# Altium integrated library Vishay Roederstein Electrolytic Snap-In Pins Capacitor.IntLib: 936 symbols (part 1 of 16)
Pins are listed as number, name and electrical type; pins without a type are passive.

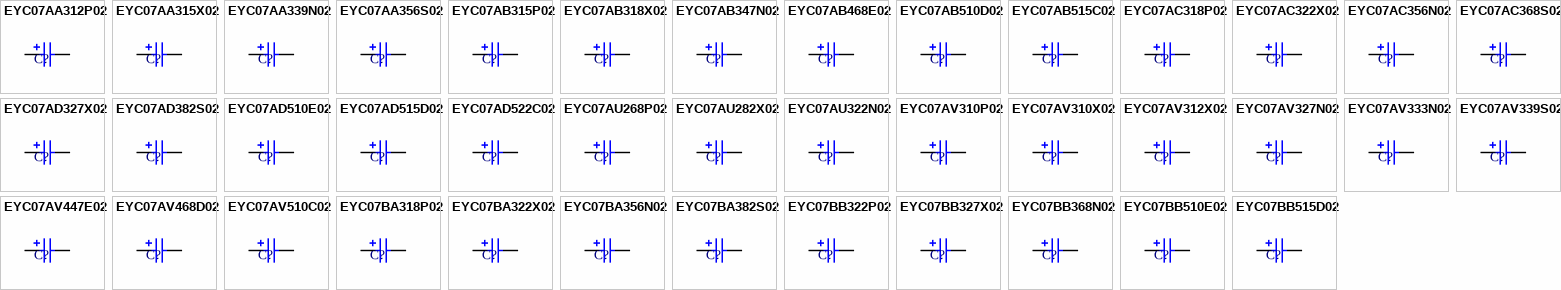
[diagram p0: symbols EYC07AA312P02 to EYC07BB515D02]

## EYC07AA312P02
designator C?
Aluminum Electrolytic Capacitor, Power Capacitor Style EYC, Snap-in 6mm Solder Pins: 120uF, 450V; PCB_Layout: Complies with Manufacturer's Recommendation.; DrillSize: Nominal, Complies with Manufacturer's Recommendation.; Published: 19-Mar-2004; DatasheetDocument: 26-Feb-2002; PackageReference: CAPPRS10-25X35; Publisher: Altium Limited; ComponentLink1Description: Manufacturer Link; ComponentLink1URL: http://www.vishay.com/; ComponentLink2Description: Datasheet; ComponentLink2URL: http://www.vishay.com/docs/25138/eyc.pdf; Value: 120uF
footprint CAPPRS10-25X35 (Capacitor, Electrolytic, Radial, Snap-In Pins; Body 25 x 35 mm (Dia.xH typ); Pin Spacing 10 mm (typ))
simulation model CAP (Capacitor)
signal-integrity model EYC07AA312P02
pins: 1, 2
1 alternate drawing of the same symbol

## EYC07AA315X02
designator C?
Aluminum Electrolytic Capacitor, Power Capacitor Style EYC, Snap-in 6mm Solder Pins: 150uF, 400V; PCB_Layout: Complies with Manufacturer's Recommendation.; DrillSize: Nominal, Complies with Manufacturer's Recommendation.; Published: 19-Mar-2004; DatasheetDocument: 26-Feb-2002; PackageReference: CAPPRS10-25X35; Publisher: Altium Limited; ComponentLink1Description: Manufacturer Link; ComponentLink1URL: http://www.vishay.com/; ComponentLink2Description: Datasheet; ComponentLink2URL: http://www.vishay.com/docs/25138/eyc.pdf; Value: 150uF
footprint CAPPRS10-25X35 (Capacitor, Electrolytic, Radial, Snap-In Pins; Body 25 x 35 mm (Dia.xH typ); Pin Spacing 10 mm (typ))
simulation model CAP (Capacitor)
signal-integrity model EYC07AA315X02
pins: 1, 2
1 alternate drawing of the same symbol

## EYC07AA339N02
designator C?
Aluminum Electrolytic Capacitor, Power Capacitor Style EYC, Snap-in 6mm Solder Pins: 390uF, 250V; PCB_Layout: Complies with Manufacturer's Recommendation.; DrillSize: Nominal, Complies with Manufacturer's Recommendation.; Published: 19-Mar-2004; DatasheetDocument: 26-Feb-2002; PackageReference: CAPPRS10-25X35; Publisher: Altium Limited; ComponentLink1Description: Manufacturer Link; ComponentLink1URL: http://www.vishay.com/; ComponentLink2Description: Datasheet; ComponentLink2URL: http://www.vishay.com/docs/25138/eyc.pdf; Value: 390uF
footprint CAPPRS10-25X35 (Capacitor, Electrolytic, Radial, Snap-In Pins; Body 25 x 35 mm (Dia.xH typ); Pin Spacing 10 mm (typ))
simulation model CAP (Capacitor)
signal-integrity model EYC07AA339N02
pins: 1, 2
1 alternate drawing of the same symbol

## EYC07AA356S02
designator C?
Aluminum Electrolytic Capacitor, Power Capacitor Style EYC, Snap-in 6mm Solder Pins: 560uF, 200V; PCB_Layout: Complies with Manufacturer's Recommendation.; DrillSize: Nominal, Complies with Manufacturer's Recommendation.; Published: 19-Mar-2004; DatasheetDocument: 26-Feb-2002; PackageReference: CAPPRS10-25X35; Publisher: Altium Limited; ComponentLink1Description: Manufacturer Link; ComponentLink1URL: http://www.vishay.com/; ComponentLink2Description: Datasheet; ComponentLink2URL: http://www.vishay.com/docs/25138/eyc.pdf; Value: 560uF
footprint CAPPRS10-25X35 (Capacitor, Electrolytic, Radial, Snap-In Pins; Body 25 x 35 mm (Dia.xH typ); Pin Spacing 10 mm (typ))
simulation model CAP (Capacitor)
signal-integrity model EYC07AA356S02
pins: 1, 2
1 alternate drawing of the same symbol

## EYC07AB315P02
designator C?
Aluminum Electrolytic Capacitor, Power Capacitor Style EYC, Snap-in 6mm Solder Pins: 150uF, 450V; PCB_Layout: Complies with Manufacturer's Recommendation.; DrillSize: Nominal, Complies with Manufacturer's Recommendation.; Published: 19-Mar-2004; DatasheetDocument: 26-Feb-2002; PackageReference: CAPPRS10-25X40; Publisher: Altium Limited; ComponentLink1Description: Manufacturer Link; ComponentLink1URL: http://www.vishay.com/; ComponentLink2Description: Datasheet; ComponentLink2URL: http://www.vishay.com/docs/25138/eyc.pdf; Value: 150uF
footprint CAPPRS10-25X40 (Capacitor, Electrolytic, Radial, Snap-In Pins; Body 25 x 40 mm (Dia.xH typ); Pin Spacing 10 mm (typ))
simulation model CAP (Capacitor)
signal-integrity model EYC07AB315P02
pins: 1, 2
1 alternate drawing of the same symbol

## EYC07AB318X02
designator C?
Aluminum Electrolytic Capacitor, Power Capacitor Style EYC, Snap-in 6mm Solder Pins: 180uF, 400V; PCB_Layout: Complies with Manufacturer's Recommendation.; DrillSize: Nominal, Complies with Manufacturer's Recommendation.; Published: 19-Mar-2004; DatasheetDocument: 26-Feb-2002; PackageReference: CAPPRS10-25X40; Publisher: Altium Limited; ComponentLink1Description: Manufacturer Link; ComponentLink1URL: http://www.vishay.com/; ComponentLink2Description: Datasheet; ComponentLink2URL: http://www.vishay.com/docs/25138/eyc.pdf; Value: 180uF
footprint CAPPRS10-25X40 (Capacitor, Electrolytic, Radial, Snap-In Pins; Body 25 x 40 mm (Dia.xH typ); Pin Spacing 10 mm (typ))
simulation model CAP (Capacitor)
signal-integrity model EYC07AB318X02
pins: 1, 2
1 alternate drawing of the same symbol

## EYC07AB347N02
designator C?
Aluminum Electrolytic Capacitor, Power Capacitor Style EYC, Snap-in 6mm Solder Pins: 470uF, 250V; PCB_Layout: Complies with Manufacturer's Recommendation.; DrillSize: Nominal, Complies with Manufacturer's Recommendation.; Published: 19-Mar-2004; DatasheetDocument: 26-Feb-2002; PackageReference: CAPPRS10-25X40; Publisher: Altium Limited; ComponentLink1Description: Manufacturer Link; ComponentLink1URL: http://www.vishay.com/; ComponentLink2Description: Datasheet; ComponentLink2URL: http://www.vishay.com/docs/25138/eyc.pdf; Value: 470uF
footprint CAPPRS10-25X40 (Capacitor, Electrolytic, Radial, Snap-In Pins; Body 25 x 40 mm (Dia.xH typ); Pin Spacing 10 mm (typ))
simulation model CAP (Capacitor)
signal-integrity model EYC07AB347N02
pins: 1, 2
1 alternate drawing of the same symbol

## EYC07AB468E02
designator C?
Aluminum Electrolytic Capacitor, Power Capacitor Style EYC, Snap-in 6mm Solder Pins: 6800uF, 25V; PCB_Layout: Complies with Manufacturer's Recommendation.; DrillSize: Nominal, Complies with Manufacturer's Recommendation.; Published: 19-Mar-2004; DatasheetDocument: 26-Feb-2002; PackageReference: CAPPRS10-25X40; Publisher: Altium Limited; ComponentLink1Description: Manufacturer Link; ComponentLink1URL: http://www.vishay.com/; ComponentLink2Description: Datasheet; ComponentLink2URL: http://www.vishay.com/docs/25138/eyc.pdf; Value: 6800uF
footprint CAPPRS10-25X40 (Capacitor, Electrolytic, Radial, Snap-In Pins; Body 25 x 40 mm (Dia.xH typ); Pin Spacing 10 mm (typ))
simulation model CAP (Capacitor)
signal-integrity model EYC07AB468E02
pins: 1, 2
1 alternate drawing of the same symbol

## EYC07AB510D02
designator C?
Aluminum Electrolytic Capacitor, Power Capacitor Style EYC, Snap-in 6mm Solder Pins: 10000uF, 16V; PCB_Layout: Complies with Manufacturer's Recommendation.; DrillSize: Nominal, Complies with Manufacturer's Recommendation.; Published: 19-Mar-2004; DatasheetDocument: 26-Feb-2002; PackageReference: CAPPRS10-25X40; Publisher: Altium Limited; ComponentLink1Description: Manufacturer Link; ComponentLink1URL: http://www.vishay.com/; ComponentLink2Description: Datasheet; ComponentLink2URL: http://www.vishay.com/docs/25138/eyc.pdf; Value: 10000uF
footprint CAPPRS10-25X40 (Capacitor, Electrolytic, Radial, Snap-In Pins; Body 25 x 40 mm (Dia.xH typ); Pin Spacing 10 mm (typ))
simulation model CAP (Capacitor)
signal-integrity model EYC07AB510D02
pins: 1, 2
1 alternate drawing of the same symbol

## EYC07AB515C02
designator C?
Aluminum Electrolytic Capacitor, Power Capacitor Style EYC, Snap-in 6mm Solder Pins: 15000uF, 10V; PCB_Layout: Complies with Manufacturer's Recommendation.; DrillSize: Nominal, Complies with Manufacturer's Recommendation.; Published: 19-Mar-2004; DatasheetDocument: 26-Feb-2002; PackageReference: CAPPRS10-25X40; Publisher: Altium Limited; ComponentLink1Description: Manufacturer Link; ComponentLink1URL: http://www.vishay.com/; ComponentLink2Description: Datasheet; ComponentLink2URL: http://www.vishay.com/docs/25138/eyc.pdf; Value: 15000uF
footprint CAPPRS10-25X40 (Capacitor, Electrolytic, Radial, Snap-In Pins; Body 25 x 40 mm (Dia.xH typ); Pin Spacing 10 mm (typ))
simulation model CAP (Capacitor)
signal-integrity model EYC07AB515C02
pins: 1, 2
1 alternate drawing of the same symbol

## EYC07AC318P02
designator C?
Aluminum Electrolytic Capacitor, Power Capacitor Style EYC, Snap-in 6mm Solder Pins: 180uF, 450V; PCB_Layout: Complies with Manufacturer's Recommendation.; DrillSize: Nominal, Complies with Manufacturer's Recommendation.; Published: 19-Mar-2004; DatasheetDocument: 26-Feb-2002; PackageReference: CAPPRS10-25X45; Publisher: Altium Limited; ComponentLink1Description: Manufacturer Link; ComponentLink1URL: http://www.vishay.com/; ComponentLink2Description: Datasheet; ComponentLink2URL: http://www.vishay.com/docs/25138/eyc.pdf; Value: 180uF
footprint CAPPRS10-25X45 (Capacitor, Electrolytic, Radial, Snap-In Pins; Body 25 x 45 mm (Dia.xH typ); Pin Spacing 10 mm (typ))
simulation model CAP (Capacitor)
signal-integrity model EYC07AC318P02
pins: 1, 2
1 alternate drawing of the same symbol

## EYC07AC322X02
designator C?
Aluminum Electrolytic Capacitor, Power Capacitor Style EYC, Snap-in 6mm Solder Pins: 220uF, 400V; PCB_Layout: Complies with Manufacturer's Recommendation.; DrillSize: Nominal, Complies with Manufacturer's Recommendation.; Published: 19-Mar-2004; DatasheetDocument: 26-Feb-2002; PackageReference: CAPPRS10-25X45; Publisher: Altium Limited; ComponentLink1Description: Manufacturer Link; ComponentLink1URL: http://www.vishay.com/; ComponentLink2Description: Datasheet; ComponentLink2URL: http://www.vishay.com/docs/25138/eyc.pdf; Value: 220uF
footprint CAPPRS10-25X45 (Capacitor, Electrolytic, Radial, Snap-In Pins; Body 25 x 45 mm (Dia.xH typ); Pin Spacing 10 mm (typ))
simulation model CAP (Capacitor)
signal-integrity model EYC07AC322X02
pins: 1, 2
1 alternate drawing of the same symbol

## EYC07AC356N02
designator C?
Aluminum Electrolytic Capacitor, Power Capacitor Style EYC, Snap-in 6mm Solder Pins: 560uF, 250V; PCB_Layout: Complies with Manufacturer's Recommendation.; DrillSize: Nominal, Complies with Manufacturer's Recommendation.; Published: 19-Mar-2004; DatasheetDocument: 26-Feb-2002; PackageReference: CAPPRS10-25X45; Publisher: Altium Limited; ComponentLink1Description: Manufacturer Link; ComponentLink1URL: http://www.vishay.com/; ComponentLink2Description: Datasheet; ComponentLink2URL: http://www.vishay.com/docs/25138/eyc.pdf; Value: 560uF
footprint CAPPRS10-25X45 (Capacitor, Electrolytic, Radial, Snap-In Pins; Body 25 x 45 mm (Dia.xH typ); Pin Spacing 10 mm (typ))
simulation model CAP (Capacitor)
signal-integrity model EYC07AC356N02
pins: 1, 2
1 alternate drawing of the same symbol

## EYC07AC368S02
designator C?
Aluminum Electrolytic Capacitor, Power Capacitor Style EYC, Snap-in 6mm Solder Pins: 680uF, 200V; PCB_Layout: Complies with Manufacturer's Recommendation.; DrillSize: Nominal, Complies with Manufacturer's Recommendation.; Published: 19-Mar-2004; DatasheetDocument: 26-Feb-2002; PackageReference: CAPPRS10-25X45; Publisher: Altium Limited; ComponentLink1Description: Manufacturer Link; ComponentLink1URL: http://www.vishay.com/; ComponentLink2Description: Datasheet; ComponentLink2URL: http://www.vishay.com/docs/25138/eyc.pdf; Value: 680uF
footprint CAPPRS10-25X45 (Capacitor, Electrolytic, Radial, Snap-In Pins; Body 25 x 45 mm (Dia.xH typ); Pin Spacing 10 mm (typ))
simulation model CAP (Capacitor)
signal-integrity model EYC07AC368S02
pins: 1, 2
1 alternate drawing of the same symbol

## EYC07AD327X02
designator C?
Aluminum Electrolytic Capacitor, Power Capacitor Style EYC, Snap-in 6mm Solder Pins: 270uF, 400V; PCB_Layout: Complies with Manufacturer's Recommendation.; DrillSize: Nominal, Complies with Manufacturer's Recommendation.; Published: 19-Mar-2004; DatasheetDocument: 26-Feb-2002; PackageReference: CAPPRS10-25X50; Publisher: Altium Limited; ComponentLink1Description: Manufacturer Link; ComponentLink1URL: http://www.vishay.com/; ComponentLink2Description: Datasheet; ComponentLink2URL: http://www.vishay.com/docs/25138/eyc.pdf; Value: 270uF
footprint CAPPRS10-25X50 (Capacitor, Electrolytic, Radial, Snap-In Pins; Body 25 x 50 mm (Dia.xH typ); Pin Spacing 10 mm (typ))
simulation model CAP (Capacitor)
signal-integrity model EYC07AD327X02
pins: 1, 2
1 alternate drawing of the same symbol

## EYC07AD382S02
designator C?
Aluminum Electrolytic Capacitor, Power Capacitor Style EYC, Snap-in 6mm Solder Pins: 820uF, 200V; PCB_Layout: Complies with Manufacturer's Recommendation.; DrillSize: Nominal, Complies with Manufacturer's Recommendation.; Published: 19-Mar-2004; DatasheetDocument: 26-Feb-2002; PackageReference: CAPPRS10-25X50; Publisher: Altium Limited; ComponentLink1Description: Manufacturer Link; ComponentLink1URL: http://www.vishay.com/; ComponentLink2Description: Datasheet; ComponentLink2URL: http://www.vishay.com/docs/25138/eyc.pdf; Value: 820uF
footprint CAPPRS10-25X50 (Capacitor, Electrolytic, Radial, Snap-In Pins; Body 25 x 50 mm (Dia.xH typ); Pin Spacing 10 mm (typ))
simulation model CAP (Capacitor)
signal-integrity model EYC07AD382S02
pins: 1, 2
1 alternate drawing of the same symbol

## EYC07AD510E02
designator C?
Aluminum Electrolytic Capacitor, Power Capacitor Style EYC, Snap-in 6mm Solder Pins: 10000uF, 25V; PCB_Layout: Complies with Manufacturer's Recommendation.; DrillSize: Nominal, Complies with Manufacturer's Recommendation.; Published: 19-Mar-2004; DatasheetDocument: 26-Feb-2002; PackageReference: CAPPRS10-25X50; Publisher: Altium Limited; ComponentLink1Description: Manufacturer Link; ComponentLink1URL: http://www.vishay.com/; ComponentLink2Description: Datasheet; ComponentLink2URL: http://www.vishay.com/docs/25138/eyc.pdf; Value: 10000uF
footprint CAPPRS10-25X50 (Capacitor, Electrolytic, Radial, Snap-In Pins; Body 25 x 50 mm (Dia.xH typ); Pin Spacing 10 mm (typ))
simulation model CAP (Capacitor)
signal-integrity model EYC07AD510E02
pins: 1, 2
1 alternate drawing of the same symbol

## EYC07AD515D02
designator C?
Aluminum Electrolytic Capacitor, Power Capacitor Style EYC, Snap-in 6mm Solder Pins: 15000uF, 16V; PCB_Layout: Complies with Manufacturer's Recommendation.; DrillSize: Nominal, Complies with Manufacturer's Recommendation.; Published: 19-Mar-2004; DatasheetDocument: 26-Feb-2002; PackageReference: CAPPRS10-25X50; Publisher: Altium Limited; ComponentLink1Description: Manufacturer Link; ComponentLink1URL: http://www.vishay.com/; ComponentLink2Description: Datasheet; ComponentLink2URL: http://www.vishay.com/docs/25138/eyc.pdf; Value: 15000uF
footprint CAPPRS10-25X50 (Capacitor, Electrolytic, Radial, Snap-In Pins; Body 25 x 50 mm (Dia.xH typ); Pin Spacing 10 mm (typ))
simulation model CAP (Capacitor)
signal-integrity model EYC07AD515D02
pins: 1, 2
1 alternate drawing of the same symbol

## EYC07AD522C02
designator C?
Aluminum Electrolytic Capacitor, Power Capacitor Style EYC, Snap-in 6mm Solder Pins: 22000uF, 10V; PCB_Layout: Complies with Manufacturer's Recommendation.; DrillSize: Nominal, Complies with Manufacturer's Recommendation.; Published: 19-Mar-2004; DatasheetDocument: 26-Feb-2002; PackageReference: CAPPRS10-25X50; Publisher: Altium Limited; ComponentLink1Description: Manufacturer Link; ComponentLink1URL: http://www.vishay.com/; ComponentLink2Description: Datasheet; ComponentLink2URL: http://www.vishay.com/docs/25138/eyc.pdf; Value: 22000uF
footprint CAPPRS10-25X50 (Capacitor, Electrolytic, Radial, Snap-In Pins; Body 25 x 50 mm (Dia.xH typ); Pin Spacing 10 mm (typ))
simulation model CAP (Capacitor)
signal-integrity model EYC07AD522C02
pins: 1, 2
1 alternate drawing of the same symbol

## EYC07AU268P02
designator C?
Aluminum Electrolytic Capacitor, Power Capacitor Style EYC, Snap-in 6mm Solder Pins: 68uF, 450V; PCB_Layout: Complies with Manufacturer's Recommendation.; DrillSize: Nominal, Complies with Manufacturer's Recommendation.; Published: 19-Mar-2004; DatasheetDocument: 26-Feb-2002; PackageReference: CAPPRS10-25X25; Publisher: Altium Limited; ComponentLink1Description: Manufacturer Link; ComponentLink1URL: http://www.vishay.com/; ComponentLink2Description: Datasheet; ComponentLink2URL: http://www.vishay.com/docs/25138/eyc.pdf; Value: 68uF
footprint CAPPRS10-25X25 (Capacitor, Electrolytic, Radial, Snap-In Pins; Body 25 x 25 mm (Dia.xH typ); Pin Spacing 10 mm (typ))
simulation model CAP (Capacitor)
signal-integrity model EYC07AU268P02
pins: 1, 2
1 alternate drawing of the same symbol

## EYC07AU282X02
designator C?
Aluminum Electrolytic Capacitor, Power Capacitor Style EYC, Snap-in 6mm Solder Pins: 82uF, 400V; PCB_Layout: Complies with Manufacturer's Recommendation.; DrillSize: Nominal, Complies with Manufacturer's Recommendation.; Published: 19-Mar-2004; DatasheetDocument: 26-Feb-2002; PackageReference: CAPPRS10-25X25; Publisher: Altium Limited; ComponentLink1Description: Manufacturer Link; ComponentLink1URL: http://www.vishay.com/; ComponentLink2Description: Datasheet; ComponentLink2URL: http://www.vishay.com/docs/25138/eyc.pdf; Value: 82uF
footprint CAPPRS10-25X25 (Capacitor, Electrolytic, Radial, Snap-In Pins; Body 25 x 25 mm (Dia.xH typ); Pin Spacing 10 mm (typ))
simulation model CAP (Capacitor)
signal-integrity model EYC07AU282X02
pins: 1, 2
1 alternate drawing of the same symbol

## EYC07AU322N02
designator C?
Aluminum Electrolytic Capacitor, Power Capacitor Style EYC, Snap-in 6mm Solder Pins: 220uF, 250V; PCB_Layout: Complies with Manufacturer's Recommendation.; DrillSize: Nominal, Complies with Manufacturer's Recommendation.; Published: 19-Mar-2004; DatasheetDocument: 26-Feb-2002; PackageReference: CAPPRS10-25X25; Publisher: Altium Limited; ComponentLink1Description: Manufacturer Link; ComponentLink1URL: http://www.vishay.com/; ComponentLink2Description: Datasheet; ComponentLink2URL: http://www.vishay.com/docs/25138/eyc.pdf; Value: 220uF
footprint CAPPRS10-25X25 (Capacitor, Electrolytic, Radial, Snap-In Pins; Body 25 x 25 mm (Dia.xH typ); Pin Spacing 10 mm (typ))
simulation model CAP (Capacitor)
signal-integrity model EYC07AU322N02
pins: 1, 2
1 alternate drawing of the same symbol

## EYC07AV310P02
designator C?
Aluminum Electrolytic Capacitor, Power Capacitor Style EYC, Snap-in 6mm Solder Pins: 100uF, 450V; PCB_Layout: Complies with Manufacturer's Recommendation.; DrillSize: Nominal, Complies with Manufacturer's Recommendation.; Published: 19-Mar-2004; DatasheetDocument: 26-Feb-2002; PackageReference: CAPPRS10-25X30; Publisher: Altium Limited; ComponentLink1Description: Manufacturer Link; ComponentLink1URL: http://www.vishay.com/; ComponentLink2Description: Datasheet; ComponentLink2URL: http://www.vishay.com/docs/25138/eyc.pdf; Value: 100uF
footprint CAPPRS10-25X30 (Capacitor, Electrolytic, Radial, Snap-In Pins; Body 25 x 30 mm (Dia.xH typ); Pin Spacing 10 mm (typ))
simulation model CAP (Capacitor)
signal-integrity model EYC07AV310P02
pins: 1, 2
1 alternate drawing of the same symbol

## EYC07AV310X02
designator C?
Aluminum Electrolytic Capacitor, Power Capacitor Style EYC, Snap-in 6mm Solder Pins: 100uF, 400V; PCB_Layout: Complies with Manufacturer's Recommendation.; DrillSize: Nominal, Complies with Manufacturer's Recommendation.; Published: 19-Mar-2004; DatasheetDocument: 26-Feb-2002; PackageReference: CAPPRS10-25X30; Publisher: Altium Limited; ComponentLink1Description: Manufacturer Link; ComponentLink1URL: http://www.vishay.com/; ComponentLink2Description: Datasheet; ComponentLink2URL: http://www.vishay.com/docs/25138/eyc.pdf; Value: 100uF
footprint CAPPRS10-25X30 (Capacitor, Electrolytic, Radial, Snap-In Pins; Body 25 x 30 mm (Dia.xH typ); Pin Spacing 10 mm (typ))
simulation model CAP (Capacitor)
signal-integrity model EYC07AV310X02
pins: 1, 2
1 alternate drawing of the same symbol

## EYC07AV312X02
designator C?
Aluminum Electrolytic Capacitor, Power Capacitor Style EYC, Snap-in 6mm Solder Pins: 120uF, 400V; PCB_Layout: Complies with Manufacturer's Recommendation.; DrillSize: Nominal, Complies with Manufacturer's Recommendation.; Published: 19-Mar-2004; DatasheetDocument: 26-Feb-2002; PackageReference: CAPPRS10-25X30; Publisher: Altium Limited; ComponentLink1Description: Manufacturer Link; ComponentLink1URL: http://www.vishay.com/; ComponentLink2Description: Datasheet; ComponentLink2URL: http://www.vishay.com/docs/25138/eyc.pdf; Value: 120uF
footprint CAPPRS10-25X30 (Capacitor, Electrolytic, Radial, Snap-In Pins; Body 25 x 30 mm (Dia.xH typ); Pin Spacing 10 mm (typ))
simulation model CAP (Capacitor)
signal-integrity model EYC07AV312X02
pins: 1, 2
1 alternate drawing of the same symbol

## EYC07AV327N02
designator C?
Aluminum Electrolytic Capacitor, Power Capacitor Style EYC, Snap-in 6mm Solder Pins: 270uF, 250V; PCB_Layout: Complies with Manufacturer's Recommendation.; DrillSize: Nominal, Complies with Manufacturer's Recommendation.; Published: 19-Mar-2004; DatasheetDocument: 26-Feb-2002; PackageReference: CAPPRS10-25X30; Publisher: Altium Limited; ComponentLink1Description: Manufacturer Link; ComponentLink1URL: http://www.vishay.com/; ComponentLink2Description: Datasheet; ComponentLink2URL: http://www.vishay.com/docs/25138/eyc.pdf; Value: 270uF
footprint CAPPRS10-25X30 (Capacitor, Electrolytic, Radial, Snap-In Pins; Body 25 x 30 mm (Dia.xH typ); Pin Spacing 10 mm (typ))
simulation model CAP (Capacitor)
signal-integrity model EYC07AV327N02
pins: 1, 2
1 alternate drawing of the same symbol

## EYC07AV333N02
designator C?
Aluminum Electrolytic Capacitor, Power Capacitor Style EYC, Snap-in 6mm Solder Pins: 330uF, 250V; PCB_Layout: Complies with Manufacturer's Recommendation.; DrillSize: Nominal, Complies with Manufacturer's Recommendation.; Published: 19-Mar-2004; DatasheetDocument: 26-Feb-2002; PackageReference: CAPPRS10-25X30; Publisher: Altium Limited; ComponentLink1Description: Manufacturer Link; ComponentLink1URL: http://www.vishay.com/; ComponentLink2Description: Datasheet; ComponentLink2URL: http://www.vishay.com/docs/25138/eyc.pdf; Value: 330uF
footprint CAPPRS10-25X30 (Capacitor, Electrolytic, Radial, Snap-In Pins; Body 25 x 30 mm (Dia.xH typ); Pin Spacing 10 mm (typ))
simulation model CAP (Capacitor)
signal-integrity model EYC07AV333N02
pins: 1, 2
1 alternate drawing of the same symbol

## EYC07AV339S02
designator C?
Aluminum Electrolytic Capacitor, Power Capacitor Style EYC, Snap-in 6mm Solder Pins: 390uF, 200V; PCB_Layout: Complies with Manufacturer's Recommendation.; DrillSize: Nominal, Complies with Manufacturer's Recommendation.; Published: 19-Mar-2004; DatasheetDocument: 26-Feb-2002; PackageReference: CAPPRS10-25X30; Publisher: Altium Limited; ComponentLink1Description: Manufacturer Link; ComponentLink1URL: http://www.vishay.com/; ComponentLink2Description: Datasheet; ComponentLink2URL: http://www.vishay.com/docs/25138/eyc.pdf; Value: 390uF
footprint CAPPRS10-25X30 (Capacitor, Electrolytic, Radial, Snap-In Pins; Body 25 x 30 mm (Dia.xH typ); Pin Spacing 10 mm (typ))
simulation model CAP (Capacitor)
signal-integrity model EYC07AV339S02
pins: 1, 2
1 alternate drawing of the same symbol

## EYC07AV447E02
designator C?
Aluminum Electrolytic Capacitor, Power Capacitor Style EYC, Snap-in 6mm Solder Pins: 4700uF, 25V; PCB_Layout: Complies with Manufacturer's Recommendation.; DrillSize: Nominal, Complies with Manufacturer's Recommendation.; Published: 19-Mar-2004; DatasheetDocument: 26-Feb-2002; PackageReference: CAPPRS10-25X30; Publisher: Altium Limited; ComponentLink1Description: Manufacturer Link; ComponentLink1URL: http://www.vishay.com/; ComponentLink2Description: Datasheet; ComponentLink2URL: http://www.vishay.com/docs/25138/eyc.pdf; Value: 4700uF
footprint CAPPRS10-25X30 (Capacitor, Electrolytic, Radial, Snap-In Pins; Body 25 x 30 mm (Dia.xH typ); Pin Spacing 10 mm (typ))
simulation model CAP (Capacitor)
signal-integrity model EYC07AV447E02
pins: 1, 2
1 alternate drawing of the same symbol

## EYC07AV468D02
designator C?
Aluminum Electrolytic Capacitor, Power Capacitor Style EYC, Snap-in 6mm Solder Pins: 6800uF, 16V; PCB_Layout: Complies with Manufacturer's Recommendation.; DrillSize: Nominal, Complies with Manufacturer's Recommendation.; Published: 19-Mar-2004; DatasheetDocument: 26-Feb-2002; PackageReference: CAPPRS10-25X30; Publisher: Altium Limited; ComponentLink1Description: Manufacturer Link; ComponentLink1URL: http://www.vishay.com/; ComponentLink2Description: Datasheet; ComponentLink2URL: http://www.vishay.com/docs/25138/eyc.pdf; Value: 6800uF
footprint CAPPRS10-25X30 (Capacitor, Electrolytic, Radial, Snap-In Pins; Body 25 x 30 mm (Dia.xH typ); Pin Spacing 10 mm (typ))
simulation model CAP (Capacitor)
signal-integrity model EYC07AV468D02
pins: 1, 2
1 alternate drawing of the same symbol

## EYC07AV510C02
designator C?
Aluminum Electrolytic Capacitor, Power Capacitor Style EYC, Snap-in 6mm Solder Pins: 10000uF, 10V; PCB_Layout: Complies with Manufacturer's Recommendation.; DrillSize: Nominal, Complies with Manufacturer's Recommendation.; Published: 19-Mar-2004; DatasheetDocument: 26-Feb-2002; PackageReference: CAPPRS10-25X30; Publisher: Altium Limited; ComponentLink1Description: Manufacturer Link; ComponentLink1URL: http://www.vishay.com/; ComponentLink2Description: Datasheet; ComponentLink2URL: http://www.vishay.com/docs/25138/eyc.pdf; Value: 10000uF
footprint CAPPRS10-25X30 (Capacitor, Electrolytic, Radial, Snap-In Pins; Body 25 x 30 mm (Dia.xH typ); Pin Spacing 10 mm (typ))
simulation model CAP (Capacitor)
signal-integrity model EYC07AV510C02
pins: 1, 2
1 alternate drawing of the same symbol

## EYC07BA318P02
designator C?
Aluminum Electrolytic Capacitor, Power Capacitor Style EYC, Snap-in 6mm Solder Pins: 180uF, 450V; PCB_Layout: Complies with Manufacturer's Recommendation.; DrillSize: Nominal, Complies with Manufacturer's Recommendation.; Published: 19-Mar-2004; DatasheetDocument: 26-Feb-2002; PackageReference: CAPPRS10-30X35; Publisher: Altium Limited; ComponentLink1Description: Manufacturer Link; ComponentLink1URL: http://www.vishay.com/; ComponentLink2Description: Datasheet; ComponentLink2URL: http://www.vishay.com/docs/25138/eyc.pdf; Value: 180uF
footprint CAPPRS10-30X35 (Capacitor, Electrolytic, Radial, Snap-In Pins; Body 30 x 35 mm (Dia.xH typ); Pin Spacing 10 mm (typ))
simulation model CAP (Capacitor)
signal-integrity model EYC07BA318P02
pins: 1, 2
1 alternate drawing of the same symbol

## EYC07BA322X02
designator C?
Aluminum Electrolytic Capacitor, Power Capacitor Style EYC, Snap-in 6mm Solder Pins: 220uF, 400V; PCB_Layout: Complies with Manufacturer's Recommendation.; DrillSize: Nominal, Complies with Manufacturer's Recommendation.; Published: 19-Mar-2004; DatasheetDocument: 26-Feb-2002; PackageReference: CAPPRS10-30X35; Publisher: Altium Limited; ComponentLink1Description: Manufacturer Link; ComponentLink1URL: http://www.vishay.com/; ComponentLink2Description: Datasheet; ComponentLink2URL: http://www.vishay.com/docs/25138/eyc.pdf; Value: 220uF
footprint CAPPRS10-30X35 (Capacitor, Electrolytic, Radial, Snap-In Pins; Body 30 x 35 mm (Dia.xH typ); Pin Spacing 10 mm (typ))
simulation model CAP (Capacitor)
signal-integrity model EYC07BA322X02
pins: 1, 2
1 alternate drawing of the same symbol

## EYC07BA356N02
designator C?
Aluminum Electrolytic Capacitor, Power Capacitor Style EYC, Snap-in 6mm Solder Pins: 560uF, 250V; PCB_Layout: Complies with Manufacturer's Recommendation.; DrillSize: Nominal, Complies with Manufacturer's Recommendation.; Published: 19-Mar-2004; DatasheetDocument: 26-Feb-2002; PackageReference: CAPPRS10-30X35; Publisher: Altium Limited; ComponentLink1Description: Manufacturer Link; ComponentLink1URL: http://www.vishay.com/; ComponentLink2Description: Datasheet; ComponentLink2URL: http://www.vishay.com/docs/25138/eyc.pdf; Value: 560uF
footprint CAPPRS10-30X35 (Capacitor, Electrolytic, Radial, Snap-In Pins; Body 30 x 35 mm (Dia.xH typ); Pin Spacing 10 mm (typ))
simulation model CAP (Capacitor)
signal-integrity model EYC07BA356N02
pins: 1, 2
1 alternate drawing of the same symbol

## EYC07BA382S02
designator C?
Aluminum Electrolytic Capacitor, Power Capacitor Style EYC, Snap-in 6mm Solder Pins: 820uF, 200V; PCB_Layout: Complies with Manufacturer's Recommendation.; DrillSize: Nominal, Complies with Manufacturer's Recommendation.; Published: 19-Mar-2004; DatasheetDocument: 26-Feb-2002; PackageReference: CAPPRS10-30X35; Publisher: Altium Limited; ComponentLink1Description: Manufacturer Link; ComponentLink1URL: http://www.vishay.com/; ComponentLink2Description: Datasheet; ComponentLink2URL: http://www.vishay.com/docs/25138/eyc.pdf; Value: 820uF
footprint CAPPRS10-30X35 (Capacitor, Electrolytic, Radial, Snap-In Pins; Body 30 x 35 mm (Dia.xH typ); Pin Spacing 10 mm (typ))
simulation model CAP (Capacitor)
signal-integrity model EYC07BA382S02
pins: 1, 2
1 alternate drawing of the same symbol

## EYC07BB322P02
designator C?
Aluminum Electrolytic Capacitor, Power Capacitor Style EYC, Snap-in 6mm Solder Pins: 220uF, 450V; PCB_Layout: Complies with Manufacturer's Recommendation.; DrillSize: Nominal, Complies with Manufacturer's Recommendation.; Published: 19-Mar-2004; DatasheetDocument: 26-Feb-2002; PackageReference: CAPPRS10-30X40; Publisher: Altium Limited; ComponentLink1Description: Manufacturer Link; ComponentLink1URL: http://www.vishay.com/; ComponentLink2Description: Datasheet; ComponentLink2URL: http://www.vishay.com/docs/25138/eyc.pdf; Value: 220uF
footprint CAPPRS10-30X40 (Capacitor, Electrolytic, Radial, Snap-In Pins; Body 30 x 40 mm (Dia.xH typ); Pin Spacing 10 mm (typ))
simulation model CAP (Capacitor)
signal-integrity model EYC07BB322P02
pins: 1, 2
1 alternate drawing of the same symbol

## EYC07BB327X02
designator C?
Aluminum Electrolytic Capacitor, Power Capacitor Style EYC, Snap-in 6mm Solder Pins: 270uF, 400V; PCB_Layout: Complies with Manufacturer's Recommendation.; DrillSize: Nominal, Complies with Manufacturer's Recommendation.; Published: 19-Mar-2004; DatasheetDocument: 26-Feb-2002; PackageReference: CAPPRS10-30X40; Publisher: Altium Limited; ComponentLink1Description: Manufacturer Link; ComponentLink1URL: http://www.vishay.com/; ComponentLink2Description: Datasheet; ComponentLink2URL: http://www.vishay.com/docs/25138/eyc.pdf; Value: 270uF
footprint CAPPRS10-30X40 (Capacitor, Electrolytic, Radial, Snap-In Pins; Body 30 x 40 mm (Dia.xH typ); Pin Spacing 10 mm (typ))
simulation model CAP (Capacitor)
signal-integrity model EYC07BB327X02
pins: 1, 2
1 alternate drawing of the same symbol

## EYC07BB368N02
designator C?
Aluminum Electrolytic Capacitor, Power Capacitor Style EYC, Snap-in 6mm Solder Pins: 680uF, 250V; PCB_Layout: Complies with Manufacturer's Recommendation.; DrillSize: Nominal, Complies with Manufacturer's Recommendation.; Published: 19-Mar-2004; DatasheetDocument: 26-Feb-2002; PackageReference: CAPPRS10-30X40; Publisher: Altium Limited; ComponentLink1Description: Manufacturer Link; ComponentLink1URL: http://www.vishay.com/; ComponentLink2Description: Datasheet; ComponentLink2URL: http://www.vishay.com/docs/25138/eyc.pdf; Value: 680uF
footprint CAPPRS10-30X40 (Capacitor, Electrolytic, Radial, Snap-In Pins; Body 30 x 40 mm (Dia.xH typ); Pin Spacing 10 mm (typ))
simulation model CAP (Capacitor)
signal-integrity model EYC07BB368N02
pins: 1, 2
1 alternate drawing of the same symbol

## EYC07BB510E02
designator C?
Aluminum Electrolytic Capacitor, Power Capacitor Style EYC, Snap-in 6mm Solder Pins: 10000uF, 25V; PCB_Layout: Complies with Manufacturer's Recommendation.; DrillSize: Nominal, Complies with Manufacturer's Recommendation.; Published: 19-Mar-2004; DatasheetDocument: 26-Feb-2002; PackageReference: CAPPRS10-30X40; Publisher: Altium Limited; ComponentLink1Description: Manufacturer Link; ComponentLink1URL: http://www.vishay.com/; ComponentLink2Description: Datasheet; ComponentLink2URL: http://www.vishay.com/docs/25138/eyc.pdf; Value: 10000uF
footprint CAPPRS10-30X40 (Capacitor, Electrolytic, Radial, Snap-In Pins; Body 30 x 40 mm (Dia.xH typ); Pin Spacing 10 mm (typ))
simulation model CAP (Capacitor)
signal-integrity model EYC07BB510E02
pins: 1, 2
1 alternate drawing of the same symbol

## EYC07BB515D02
designator C?
Aluminum Electrolytic Capacitor, Power Capacitor Style EYC, Snap-in 6mm Solder Pins: 15000uF, 16V; PCB_Layout: Complies with Manufacturer's Recommendation.; DrillSize: Nominal, Complies with Manufacturer's Recommendation.; Published: 19-Mar-2004; DatasheetDocument: 26-Feb-2002; PackageReference: CAPPRS10-30X40; Publisher: Altium Limited; ComponentLink1Description: Manufacturer Link; ComponentLink1URL: http://www.vishay.com/; ComponentLink2Description: Datasheet; ComponentLink2URL: http://www.vishay.com/docs/25138/eyc.pdf; Value: 15000uF
footprint CAPPRS10-30X40 (Capacitor, Electrolytic, Radial, Snap-In Pins; Body 30 x 40 mm (Dia.xH typ); Pin Spacing 10 mm (typ))
simulation model CAP (Capacitor)
signal-integrity model EYC07BB515D02
pins: 1, 2
1 alternate drawing of the same symbol

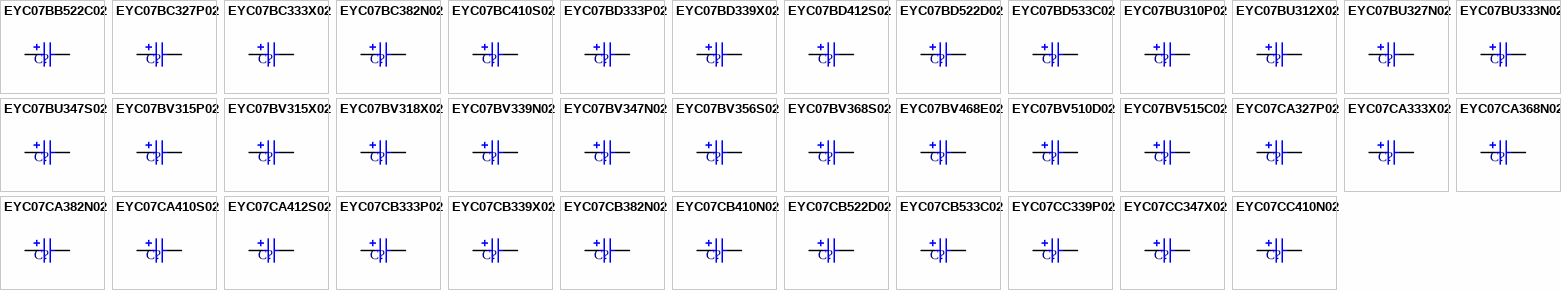
[diagram p1: symbols EYC07BB522C02 to EYC07CC410N02]

## EYC07BB522C02
designator C?
Aluminum Electrolytic Capacitor, Power Capacitor Style EYC, Snap-in 6mm Solder Pins: 22000uF, 10V; PCB_Layout: Complies with Manufacturer's Recommendation.; DrillSize: Nominal, Complies with Manufacturer's Recommendation.; Published: 19-Mar-2004; DatasheetDocument: 26-Feb-2002; PackageReference: CAPPRS10-30X40; Publisher: Altium Limited; ComponentLink1Description: Manufacturer Link; ComponentLink1URL: http://www.vishay.com/; ComponentLink2Description: Datasheet; ComponentLink2URL: http://www.vishay.com/docs/25138/eyc.pdf; Value: 22000uF
footprint CAPPRS10-30X40 (Capacitor, Electrolytic, Radial, Snap-In Pins; Body 30 x 40 mm (Dia.xH typ); Pin Spacing 10 mm (typ))
simulation model CAP (Capacitor)
signal-integrity model EYC07BB522C02
pins: 1, 2
1 alternate drawing of the same symbol

## EYC07BC327P02
designator C?
Aluminum Electrolytic Capacitor, Power Capacitor Style EYC, Snap-in 6mm Solder Pins: 270uF, 450V; PCB_Layout: Complies with Manufacturer's Recommendation.; DrillSize: Nominal, Complies with Manufacturer's Recommendation.; Published: 19-Mar-2004; DatasheetDocument: 26-Feb-2002; PackageReference: CAPPRS10-30X45; Publisher: Altium Limited; ComponentLink1Description: Manufacturer Link; ComponentLink1URL: http://www.vishay.com/; ComponentLink2Description: Datasheet; ComponentLink2URL: http://www.vishay.com/docs/25138/eyc.pdf; Value: 270uF
footprint CAPPRS10-30X45 (Capacitor, Electrolytic, Radial, Snap-In Pins; Body 30 x 45 mm (Dia.xH typ); Pin Spacing 10 mm (typ))
simulation model CAP (Capacitor)
signal-integrity model EYC07BC327P02
pins: 1, 2
1 alternate drawing of the same symbol

## EYC07BC333X02
designator C?
Aluminum Electrolytic Capacitor, Power Capacitor Style EYC, Snap-in 6mm Solder Pins: 330uF, 400V; PCB_Layout: Complies with Manufacturer's Recommendation.; DrillSize: Nominal, Complies with Manufacturer's Recommendation.; Published: 19-Mar-2004; DatasheetDocument: 26-Feb-2002; PackageReference: CAPPRS10-30X45; Publisher: Altium Limited; ComponentLink1Description: Manufacturer Link; ComponentLink1URL: http://www.vishay.com/; ComponentLink2Description: Datasheet; ComponentLink2URL: http://www.vishay.com/docs/25138/eyc.pdf; Value: 330uF
footprint CAPPRS10-30X45 (Capacitor, Electrolytic, Radial, Snap-In Pins; Body 30 x 45 mm (Dia.xH typ); Pin Spacing 10 mm (typ))
simulation model CAP (Capacitor)
signal-integrity model EYC07BC333X02
pins: 1, 2
1 alternate drawing of the same symbol

## EYC07BC382N02
designator C?
Aluminum Electrolytic Capacitor, Power Capacitor Style EYC, Snap-in 6mm Solder Pins: 820uF, 250V; PCB_Layout: Complies with Manufacturer's Recommendation.; DrillSize: Nominal, Complies with Manufacturer's Recommendation.; Published: 19-Mar-2004; DatasheetDocument: 26-Feb-2002; PackageReference: CAPPRS10-30X45; Publisher: Altium Limited; ComponentLink1Description: Manufacturer Link; ComponentLink1URL: http://www.vishay.com/; ComponentLink2Description: Datasheet; ComponentLink2URL: http://www.vishay.com/docs/25138/eyc.pdf; Value: 820uF
footprint CAPPRS10-30X45 (Capacitor, Electrolytic, Radial, Snap-In Pins; Body 30 x 45 mm (Dia.xH typ); Pin Spacing 10 mm (typ))
simulation model CAP (Capacitor)
signal-integrity model EYC07BC382N02
pins: 1, 2
1 alternate drawing of the same symbol

## EYC07BC410S02
designator C?
Aluminum Electrolytic Capacitor, Power Capacitor Style EYC, Snap-in 6mm Solder Pins: 1000uF, 200V; PCB_Layout: Complies with Manufacturer's Recommendation.; DrillSize: Nominal, Complies with Manufacturer's Recommendation.; Published: 19-Mar-2004; DatasheetDocument: 26-Feb-2002; PackageReference: CAPPRS10-30X45; Publisher: Altium Limited; ComponentLink1Description: Manufacturer Link; ComponentLink1URL: http://www.vishay.com/; ComponentLink2Description: Datasheet; ComponentLink2URL: http://www.vishay.com/docs/25138/eyc.pdf; Value: 1000uF
footprint CAPPRS10-30X45 (Capacitor, Electrolytic, Radial, Snap-In Pins; Body 30 x 45 mm (Dia.xH typ); Pin Spacing 10 mm (typ))
simulation model CAP (Capacitor)
signal-integrity model EYC07BC410S02
pins: 1, 2
1 alternate drawing of the same symbol

## EYC07BD333P02
designator C?
Aluminum Electrolytic Capacitor, Power Capacitor Style EYC, Snap-in 6mm Solder Pins: 330uF, 450V; PCB_Layout: Complies with Manufacturer's Recommendation.; DrillSize: Nominal, Complies with Manufacturer's Recommendation.; Published: 19-Mar-2004; DatasheetDocument: 26-Feb-2002; PackageReference: CAPPRS10-30X50; Publisher: Altium Limited; ComponentLink1Description: Manufacturer Link; ComponentLink1URL: http://www.vishay.com/; ComponentLink2Description: Datasheet; ComponentLink2URL: http://www.vishay.com/docs/25138/eyc.pdf; Value: 330uF
footprint CAPPRS10-30X50 (Capacitor, Electrolytic, Radial, Snap-In Pins; Body 30 x 50 mm (Dia.xH typ); Pin Spacing 10 mm (typ))
simulation model CAP (Capacitor)
signal-integrity model EYC07BD333P02
pins: 1, 2
1 alternate drawing of the same symbol

## EYC07BD339X02
designator C?
Aluminum Electrolytic Capacitor, Power Capacitor Style EYC, Snap-in 6mm Solder Pins: 390uF, 400V; PCB_Layout: Complies with Manufacturer's Recommendation.; DrillSize: Nominal, Complies with Manufacturer's Recommendation.; Published: 19-Mar-2004; DatasheetDocument: 26-Feb-2002; PackageReference: CAPPRS10-30X50; Publisher: Altium Limited; ComponentLink1Description: Manufacturer Link; ComponentLink1URL: http://www.vishay.com/; ComponentLink2Description: Datasheet; ComponentLink2URL: http://www.vishay.com/docs/25138/eyc.pdf; Value: 390uF
footprint CAPPRS10-30X50 (Capacitor, Electrolytic, Radial, Snap-In Pins; Body 30 x 50 mm (Dia.xH typ); Pin Spacing 10 mm (typ))
simulation model CAP (Capacitor)
signal-integrity model EYC07BD339X02
pins: 1, 2
1 alternate drawing of the same symbol

## EYC07BD412S02
designator C?
Aluminum Electrolytic Capacitor, Power Capacitor Style EYC, Snap-in 6mm Solder Pins: 1200uF, 200V; PCB_Layout: Complies with Manufacturer's Recommendation.; DrillSize: Nominal, Complies with Manufacturer's Recommendation.; Published: 19-Mar-2004; DatasheetDocument: 26-Feb-2002; PackageReference: CAPPRS10-30X50; Publisher: Altium Limited; ComponentLink1Description: Manufacturer Link; ComponentLink1URL: http://www.vishay.com/; ComponentLink2Description: Datasheet; ComponentLink2URL: http://www.vishay.com/docs/25138/eyc.pdf; Value: 1200uF
footprint CAPPRS10-30X50 (Capacitor, Electrolytic, Radial, Snap-In Pins; Body 30 x 50 mm (Dia.xH typ); Pin Spacing 10 mm (typ))
simulation model CAP (Capacitor)
signal-integrity model EYC07BD412S02
pins: 1, 2
1 alternate drawing of the same symbol

## EYC07BD522D02
designator C?
Aluminum Electrolytic Capacitor, Power Capacitor Style EYC, Snap-in 6mm Solder Pins: 22000uF, 16V; PCB_Layout: Complies with Manufacturer's Recommendation.; DrillSize: Nominal, Complies with Manufacturer's Recommendation.; Published: 19-Mar-2004; DatasheetDocument: 26-Feb-2002; PackageReference: CAPPRS10-30X50; Publisher: Altium Limited; ComponentLink1Description: Manufacturer Link; ComponentLink1URL: http://www.vishay.com/; ComponentLink2Description: Datasheet; ComponentLink2URL: http://www.vishay.com/docs/25138/eyc.pdf; Value: 22000uF
footprint CAPPRS10-30X50 (Capacitor, Electrolytic, Radial, Snap-In Pins; Body 30 x 50 mm (Dia.xH typ); Pin Spacing 10 mm (typ))
simulation model CAP (Capacitor)
signal-integrity model EYC07BD522D02
pins: 1, 2
1 alternate drawing of the same symbol

## EYC07BD533C02
designator C?
Aluminum Electrolytic Capacitor, Power Capacitor Style EYC, Snap-in 6mm Solder Pins: 33000uF, 10V; PCB_Layout: Complies with Manufacturer's Recommendation.; DrillSize: Nominal, Complies with Manufacturer's Recommendation.; Published: 19-Mar-2004; DatasheetDocument: 26-Feb-2002; PackageReference: CAPPRS10-30X50; Publisher: Altium Limited; ComponentLink1Description: Manufacturer Link; ComponentLink1URL: http://www.vishay.com/; ComponentLink2Description: Datasheet; ComponentLink2URL: http://www.vishay.com/docs/25138/eyc.pdf; Value: 33000uF
footprint CAPPRS10-30X50 (Capacitor, Electrolytic, Radial, Snap-In Pins; Body 30 x 50 mm (Dia.xH typ); Pin Spacing 10 mm (typ))
simulation model CAP (Capacitor)
signal-integrity model EYC07BD533C02
pins: 1, 2
1 alternate drawing of the same symbol

## EYC07BU310P02
designator C?
Aluminum Electrolytic Capacitor, Power Capacitor Style EYC, Snap-in 6mm Solder Pins: 100uF, 450V; PCB_Layout: Complies with Manufacturer's Recommendation.; DrillSize: Nominal, Complies with Manufacturer's Recommendation.; Published: 19-Mar-2004; DatasheetDocument: 26-Feb-2002; PackageReference: CAPPRS10-30X25; Publisher: Altium Limited; ComponentLink1Description: Manufacturer Link; ComponentLink1URL: http://www.vishay.com/; ComponentLink2Description: Datasheet; ComponentLink2URL: http://www.vishay.com/docs/25138/eyc.pdf; Value: 100uF
footprint CAPPRS10-30X25 (Capacitor, Electrolytic, Radial, Snap-In Pins; Body 30 x 25 mm (Dia.xH typ); Pin Spacing 10 mm (typ))
simulation model CAP (Capacitor)
signal-integrity model EYC07BU310P02
pins: 1, 2
1 alternate drawing of the same symbol

## EYC07BU312X02
designator C?
Aluminum Electrolytic Capacitor, Power Capacitor Style EYC, Snap-in 6mm Solder Pins: 120uF, 400V; PCB_Layout: Complies with Manufacturer's Recommendation.; DrillSize: Nominal, Complies with Manufacturer's Recommendation.; Published: 19-Mar-2004; DatasheetDocument: 26-Feb-2002; PackageReference: CAPPRS10-30X25; Publisher: Altium Limited; ComponentLink1Description: Manufacturer Link; ComponentLink1URL: http://www.vishay.com/; ComponentLink2Description: Datasheet; ComponentLink2URL: http://www.vishay.com/docs/25138/eyc.pdf; Value: 120uF
footprint CAPPRS10-30X25 (Capacitor, Electrolytic, Radial, Snap-In Pins; Body 30 x 25 mm (Dia.xH typ); Pin Spacing 10 mm (typ))
simulation model CAP (Capacitor)
signal-integrity model EYC07BU312X02
pins: 1, 2
1 alternate drawing of the same symbol

## EYC07BU327N02
designator C?
Aluminum Electrolytic Capacitor, Power Capacitor Style EYC, Snap-in 6mm Solder Pins: 270uF, 250V; PCB_Layout: Complies with Manufacturer's Recommendation.; DrillSize: Nominal, Complies with Manufacturer's Recommendation.; Published: 19-Mar-2004; DatasheetDocument: 26-Feb-2002; PackageReference: CAPPRS10-30X25; Publisher: Altium Limited; ComponentLink1Description: Manufacturer Link; ComponentLink1URL: http://www.vishay.com/; ComponentLink2Description: Datasheet; ComponentLink2URL: http://www.vishay.com/docs/25138/eyc.pdf; Value: 270uF
footprint CAPPRS10-30X25 (Capacitor, Electrolytic, Radial, Snap-In Pins; Body 30 x 25 mm (Dia.xH typ); Pin Spacing 10 mm (typ))
simulation model CAP (Capacitor)
signal-integrity model EYC07BU327N02
pins: 1, 2
1 alternate drawing of the same symbol

## EYC07BU333N02
designator C?
Aluminum Electrolytic Capacitor, Power Capacitor Style EYC, Snap-in 6mm Solder Pins: 330uF, 250V; PCB_Layout: Complies with Manufacturer's Recommendation.; DrillSize: Nominal, Complies with Manufacturer's Recommendation.; Published: 19-Mar-2004; DatasheetDocument: 26-Feb-2002; PackageReference: CAPPRS10-30X25; Publisher: Altium Limited; ComponentLink1Description: Manufacturer Link; ComponentLink1URL: http://www.vishay.com/; ComponentLink2Description: Datasheet; ComponentLink2URL: http://www.vishay.com/docs/25138/eyc.pdf; Value: 330uF
footprint CAPPRS10-30X25 (Capacitor, Electrolytic, Radial, Snap-In Pins; Body 30 x 25 mm (Dia.xH typ); Pin Spacing 10 mm (typ))
simulation model CAP (Capacitor)
signal-integrity model EYC07BU333N02
pins: 1, 2
1 alternate drawing of the same symbol

## EYC07BU347S02
designator C?
Aluminum Electrolytic Capacitor, Power Capacitor Style EYC, Snap-in 6mm Solder Pins: 470uF, 200V; PCB_Layout: Complies with Manufacturer's Recommendation.; DrillSize: Nominal, Complies with Manufacturer's Recommendation.; Published: 19-Mar-2004; DatasheetDocument: 26-Feb-2002; PackageReference: CAPPRS10-30X25; Publisher: Altium Limited; ComponentLink1Description: Manufacturer Link; ComponentLink1URL: http://www.vishay.com/; ComponentLink2Description: Datasheet; ComponentLink2URL: http://www.vishay.com/docs/25138/eyc.pdf; Value: 470uF
footprint CAPPRS10-30X25 (Capacitor, Electrolytic, Radial, Snap-In Pins; Body 30 x 25 mm (Dia.xH typ); Pin Spacing 10 mm (typ))
simulation model CAP (Capacitor)
signal-integrity model EYC07BU347S02
pins: 1, 2
1 alternate drawing of the same symbol

## EYC07BV315P02
designator C?
Aluminum Electrolytic Capacitor, Power Capacitor Style EYC, Snap-in 6mm Solder Pins: 150uF, 450V; PCB_Layout: Complies with Manufacturer's Recommendation.; DrillSize: Nominal, Complies with Manufacturer's Recommendation.; Published: 19-Mar-2004; DatasheetDocument: 26-Feb-2002; PackageReference: CAPPRS10-30X30; Publisher: Altium Limited; ComponentLink1Description: Manufacturer Link; ComponentLink1URL: http://www.vishay.com/; ComponentLink2Description: Datasheet; ComponentLink2URL: http://www.vishay.com/docs/25138/eyc.pdf; Value: 150uF
footprint CAPPRS10-30X30 (Capacitor, Electrolytic, Radial, Snap-In Pins; Body 30 x 30 mm (Dia.xH typ); Pin Spacing 10 mm (typ))
simulation model CAP (Capacitor)
signal-integrity model EYC07BV315P02
pins: 1, 2
1 alternate drawing of the same symbol

## EYC07BV315X02
designator C?
Aluminum Electrolytic Capacitor, Power Capacitor Style EYC, Snap-in 6mm Solder Pins: 150uF, 400V; PCB_Layout: Complies with Manufacturer's Recommendation.; DrillSize: Nominal, Complies with Manufacturer's Recommendation.; Published: 19-Mar-2004; DatasheetDocument: 26-Feb-2002; PackageReference: CAPPRS10-30X30; Publisher: Altium Limited; ComponentLink1Description: Manufacturer Link; ComponentLink1URL: http://www.vishay.com/; ComponentLink2Description: Datasheet; ComponentLink2URL: http://www.vishay.com/docs/25138/eyc.pdf; Value: 150uF
footprint CAPPRS10-30X30 (Capacitor, Electrolytic, Radial, Snap-In Pins; Body 30 x 30 mm (Dia.xH typ); Pin Spacing 10 mm (typ))
simulation model CAP (Capacitor)
signal-integrity model EYC07BV315X02
pins: 1, 2
1 alternate drawing of the same symbol

## EYC07BV318X02
designator C?
Aluminum Electrolytic Capacitor, Power Capacitor Style EYC, Snap-in 6mm Solder Pins: 180uF, 400V; PCB_Layout: Complies with Manufacturer's Recommendation.; DrillSize: Nominal, Complies with Manufacturer's Recommendation.; Published: 19-Mar-2004; DatasheetDocument: 26-Feb-2002; PackageReference: CAPPRS10-30X30; Publisher: Altium Limited; ComponentLink1Description: Manufacturer Link; ComponentLink1URL: http://www.vishay.com/; ComponentLink2Description: Datasheet; ComponentLink2URL: http://www.vishay.com/docs/25138/eyc.pdf; Value: 180uF
footprint CAPPRS10-30X30 (Capacitor, Electrolytic, Radial, Snap-In Pins; Body 30 x 30 mm (Dia.xH typ); Pin Spacing 10 mm (typ))
simulation model CAP (Capacitor)
signal-integrity model EYC07BV318X02
pins: 1, 2
1 alternate drawing of the same symbol

## EYC07BV339N02
designator C?
Aluminum Electrolytic Capacitor, Power Capacitor Style EYC, Snap-in 6mm Solder Pins: 390uF, 250V; PCB_Layout: Complies with Manufacturer's Recommendation.; DrillSize: Nominal, Complies with Manufacturer's Recommendation.; Published: 19-Mar-2004; DatasheetDocument: 26-Feb-2002; PackageReference: CAPPRS10-30X30; Publisher: Altium Limited; ComponentLink1Description: Manufacturer Link; ComponentLink1URL: http://www.vishay.com/; ComponentLink2Description: Datasheet; ComponentLink2URL: http://www.vishay.com/docs/25138/eyc.pdf; Value: 390uF
footprint CAPPRS10-30X30 (Capacitor, Electrolytic, Radial, Snap-In Pins; Body 30 x 30 mm (Dia.xH typ); Pin Spacing 10 mm (typ))
simulation model CAP (Capacitor)
signal-integrity model EYC07BV339N02
pins: 1, 2
1 alternate drawing of the same symbol

## EYC07BV347N02
designator C?
Aluminum Electrolytic Capacitor, Power Capacitor Style EYC, Snap-in 6mm Solder Pins: 470uF, 250V; PCB_Layout: Complies with Manufacturer's Recommendation.; DrillSize: Nominal, Complies with Manufacturer's Recommendation.; Published: 19-Mar-2004; DatasheetDocument: 26-Feb-2002; PackageReference: CAPPRS10-30X30; Publisher: Altium Limited; ComponentLink1Description: Manufacturer Link; ComponentLink1URL: http://www.vishay.com/; ComponentLink2Description: Datasheet; ComponentLink2URL: http://www.vishay.com/docs/25138/eyc.pdf; Value: 470uF
footprint CAPPRS10-30X30 (Capacitor, Electrolytic, Radial, Snap-In Pins; Body 30 x 30 mm (Dia.xH typ); Pin Spacing 10 mm (typ))
simulation model CAP (Capacitor)
signal-integrity model EYC07BV347N02
pins: 1, 2
1 alternate drawing of the same symbol